# EAGLE library part 52207-2685 (library Molex_By_element14_Batch_1)
SOCKET FPC, SMT, 1MM, 26 WAY
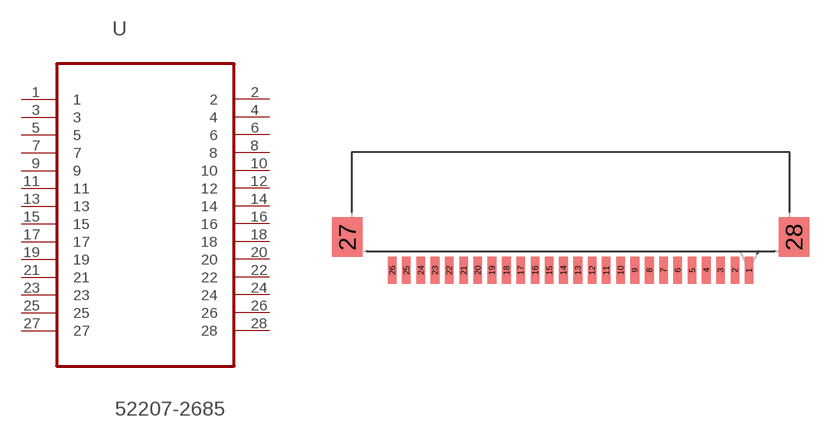
[diagram p8: symbol with the pads of MOLEX_52207-2685; footprint MOLEX_52207-2685]

Designator prefix U

## 52207-2685 (MPN: 52207-2685; OC_FARNELL: 1079947; OC_NEWARK: 07P8557; PACKAGE: SOCKET FPC, SMT, 1MM, 26 WAY; SUPPLIER: Molex)  [MOLEX_52207-2685]
1  1  pas
2  2  pas
3  3  pas
4  4  pas
5  5  pas
6  6  pas
7  7  pas
8  8  pas
9  9  pas
10  10  pas
11  11  pas
12  12  pas
13  13  pas
14  14  pas
15  15  pas
16  16  pas
17  17  pas
18  18  pas
19  19  pas
20  20  pas
21  21  pas
22  22  pas
23  23  pas
24  24  pas
25  25  pas
26  26  pas
27  27  pas
28  28  pas

## Footprint MOLEX_52207-2685 (pad centres in mm)
smd 0.61 x 1.905: 1 12.497,4.801; 2 11.506,4.801; 3 10.49,4.801; 4 9.5,4.801; 5 8.509,4.801; 6 7.493,4.801; 7 6.502,4.801; 8 5.512,4.801; 9 4.496,4.801; 10 3.505,4.801; 11 2.489,4.801; 12 1.499,4.801; 13 0.508,4.801; 14 -0.508,4.801; 15 -1.499,4.801; 16 -2.489,4.801; 17 -3.505,4.801; 18 -4.496,4.801; 19 -5.512,4.801; 20 -6.502,4.801; 21 -7.493,4.801; 22 -8.509,4.801; 23 -9.5,4.801; 24 -10.49,4.801; 25 -11.506,4.801; 26 -12.497,4.801
smd 2.108 x 2.794: 27 -15.646,7.137; 28 15.646,7.137